# EAGLE library part JDY08 (library RadioShield)
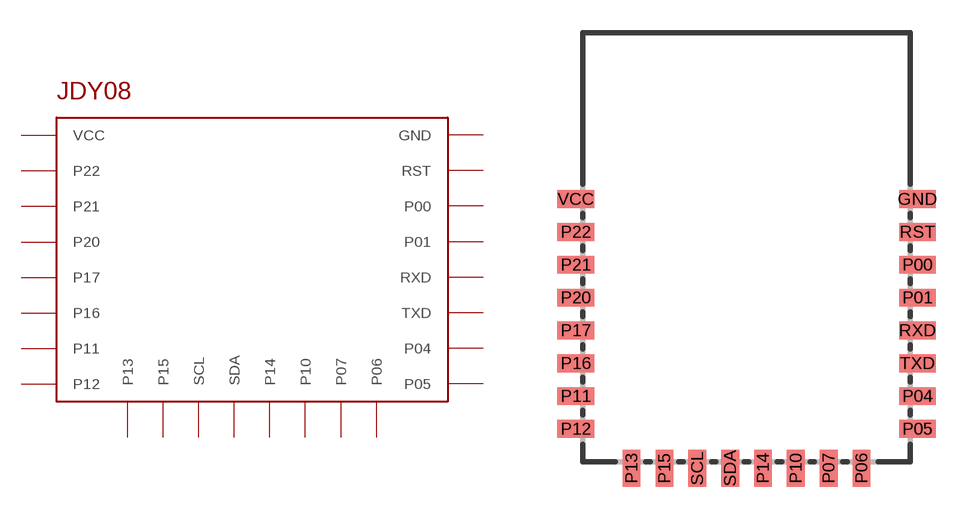
[diagram p3: symbol with the pads of JDY08; footprint JDY08]

Designator prefix -

## JDY08  [JDY08]
GND  GND
P00  P00
P01  P01
P04  P04
P05  P05
P06  P06
P07  P07
P10  P10
P11  P11
P12  P12
P13  P13
P14  P14
P15  P15
P16  P16
P17  P17
P20  P20
P21  P21
P22  P22
RST  RST
RXD  RXD
SCL  SCL
SDA  SDA
TXD  TXD
VCC  VCC

## Footprint JDY08 (pad centres in mm)
smd 1.676 x 0.813: GND 7.8,2.2; P00 7.8,-0.8; P01 7.8,-2.3; P04 7.8,-6.8; P05 7.8,-8.3; P11 -7.8,-6.8; P12 -7.8,-8.3; P16 -7.8,-5.3; P17 -7.8,-3.8; P20 -7.8,-2.3; P21 -7.8,-0.8; P22 -7.8,0.7; RST 7.8,0.7; RXD 7.8,-3.8; TXD 7.8,-5.3; VCC -7.8,2.2
smd 0.813 x 1.676: P06 5.25,-10.1; P07 3.75,-10.1; P10 2.25,-10.1; P13 -5.25,-10.1; P14 0.75,-10.1; P15 -3.75,-10.1; SCL -2.25,-10.1; SDA -0.75,-10.1